# Altium integrated library NSC Interface.IntLib: 481 symbols (part 11 of 16)
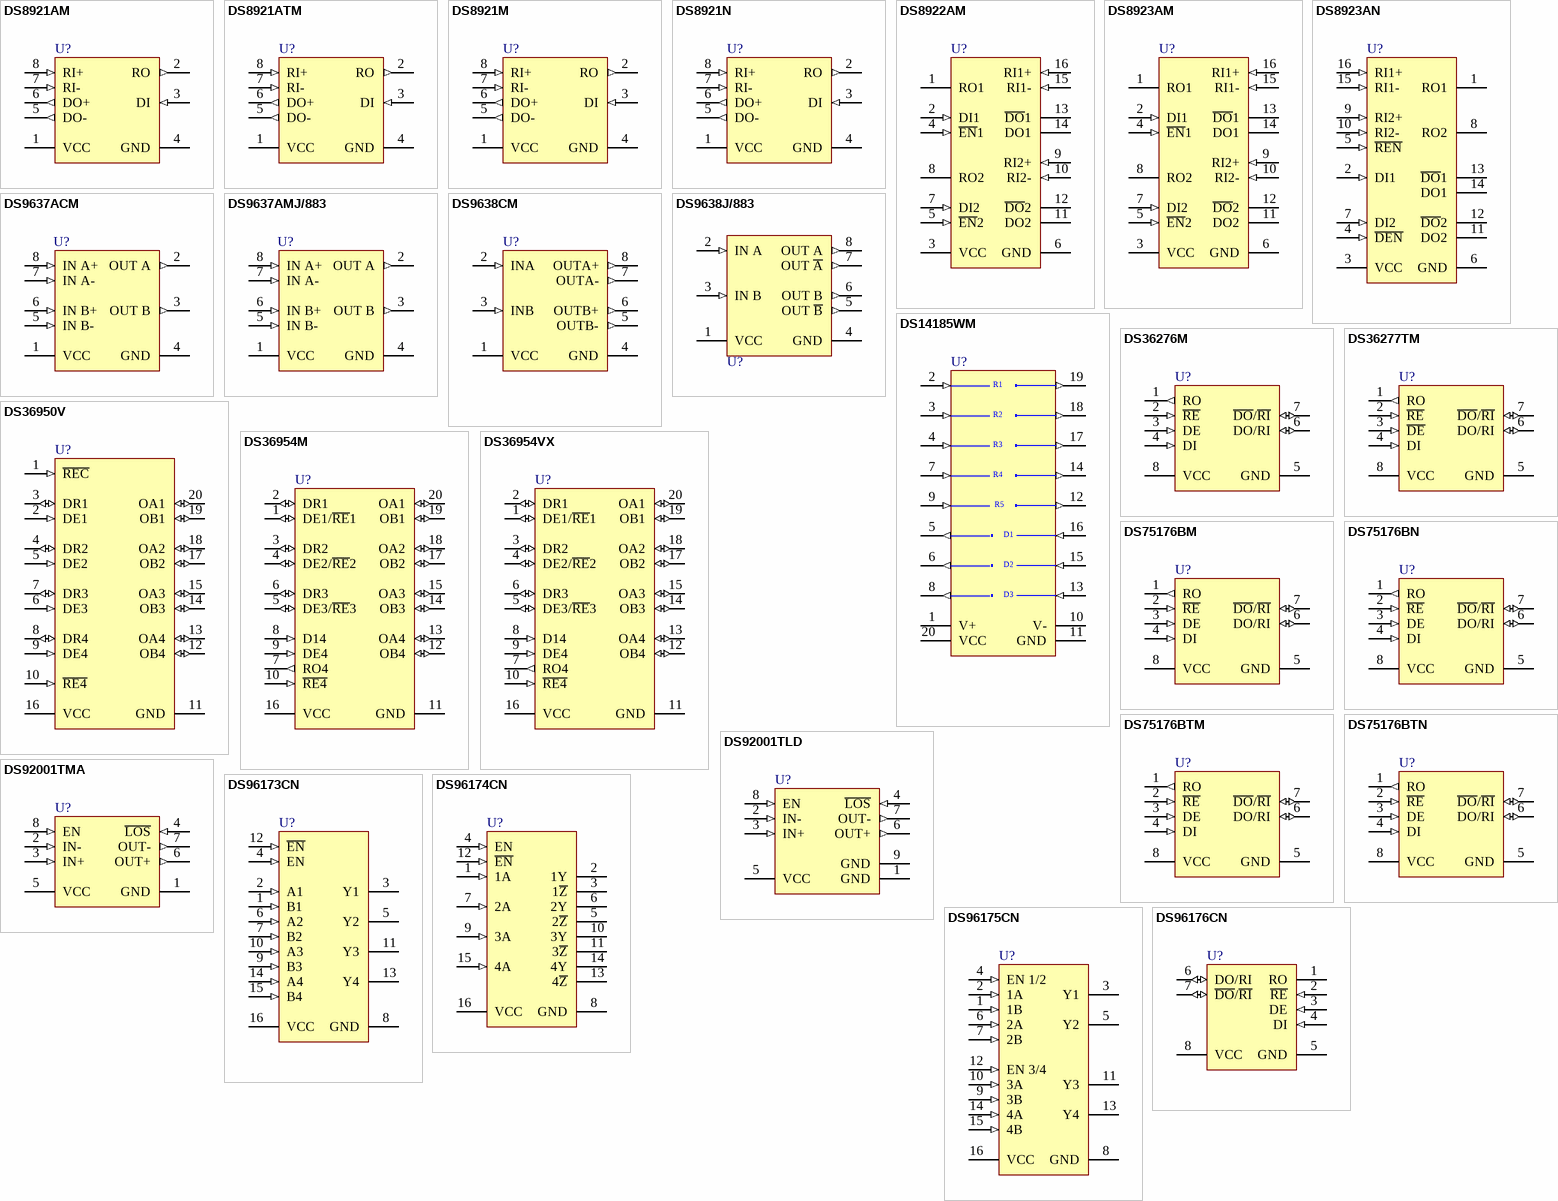
[diagram p50: symbols DS8921AM to DS96176CN]

## DS96173CN
designator U?
RS-485/RS-422 Quad Differential Line Receivers; PartNumber: DS96173CN; Manufacturer: National Semiconductor; CompType: Interface IC; PackageTopMarking: NSUZXYYTT*DS96173CN; Published: 4-Dec-2008; DatasheetVersion: Jun-1998; PackageVersion: revG, May-2006; PackageReference: N16E; Publisher: Altium Limited; PackageDescription: MDIP, .750 x .250 x.130in, 16 Lead, .100in Pitch; RoHS: Y; PinCount: 16; DigiKeyPartNumber: DS96173CN-ND; Code_JEDEC: MS-001-BB; ComponentLink1Description: DS96173 Datasheet; ComponentLink1URL: http://www.national.com/ds/DS/DS96173.pdf; ComponentLink2Description: DS96173 Web Page; ComponentLink2URL: http://www.national.com/pf/DS/DS96173.html; ComponentLink3Description: N16E Package Page; ComponentLink3URL: http://www.national.com/packaging/folders/n16e.html
footprint N16E (DIP, 16-Leads, Row Spacing 7.62mm, Pitch 2.54mm, Body 19.3x6.35mm)
pins: 1 B1 (in), 2 A1 (in), 3 Y1 (hiz), 4 EN (in), 5 Y2 (hiz), 6 A2 (in), 7 B2 (in), 8 GND (power), 9 B3 (in), 10 A3 (in), 11 Y3 (hiz), 12 ~{EN} (in), 13 Y4 (hiz), 14 A4 (in), 15 B4 (in), 16 VCC (power)

## DS96174CN
designator U?
RS-485/RS-422 Quad Differential Line Driver; PartNumber: DS96174CN; Manufacturer: National Semiconductor; CompType: Interface IC; PackageTopMarking: NSUZXYYTT*DS96174CN; Published: 4-Dec-2008; DatasheetVersion: Jun-1998; PackageVersion: revG, May-2006; PackageReference: N16E; Publisher: Altium Limited; PackageDescription: MDIP, .750 x .250 x.130in, 16 Lead, .100in Pitch; RoHS: O; PinCount: 16; DigiKeyPartNumber: DS96174CN-ND; Code_JEDEC: MS-001-BB; ComponentLink1Description: DS96174 Datasheet; ComponentLink1URL: http://www.national.com/ds/DS/DS96174.pdf; ComponentLink2Description: DS96174 Web Page; ComponentLink2URL: http://www.national.com/pf/DS/DS96174.html; ComponentLink3Description: N16E Package Page; ComponentLink3URL: http://www.national.com/packaging/folders/n16e.html
footprint N16E (DIP, 16-Leads, Row Spacing 7.62mm, Pitch 2.54mm, Body 19.3x6.35mm)
pins: 1 1A (in), 2 1Y (hiz), 3 1~{Z} (hiz), 4 EN (in), 5 2~{Z} (hiz), 6 2Y (hiz), 7 2A (in), 8 GND (power), 9 3A (in), 10 3Y (hiz), 11 3~{Z} (hiz), 12 ~{EN} (in), 13 4~{Z} (hiz), 14 4Y (hiz), 15 4A (in), 16 VCC (power)

## DS96175CN
designator U?
RS-485/RS-422 Quad Differential Line Receiver; PartNumber: DS96175CN; Manufacturer: National Semiconductor; CompType: Interface IC; PackageTopMarking: NSUZXYYTT*DS96175CN; Published: 4-Dec-2008; DatasheetVersion: Jun-1998; PackageVersion: revG, May-2006; PackageReference: N16E; Publisher: Altium Limited; PackageDescription: MDIP, .750 x .250 x.130in, 16 Lead, .100in Pitch; RoHS: O; PinCount: 16; DigiKeyPartNumber: DS96175CN-ND; Code_JEDEC: MS-001-BB; ComponentLink1Description: DS96175 Datasheet; ComponentLink1URL: http://www.national.com/ds/DS/DS96175.pdf; ComponentLink2Description: DS96175 Web Page; ComponentLink2URL: http://www.national.com/pf/DS/DS96175.html; ComponentLink3Description: N16E Package Page; ComponentLink3URL: http://www.national.com/packaging/folders/n16e.html
footprint N16E (DIP, 16-Leads, Row Spacing 7.62mm, Pitch 2.54mm, Body 19.3x6.35mm)
pins: 1 1B (in), 2 1A (in), 3 Y1 (hiz), 4 EN 1/2 (in), 5 Y2 (hiz), 6 2A (in), 7 2B (in), 8 GND (power), 9 3B (in), 10 3A (in), 11 Y3 (hiz), 12 EN 3/4 (in), 13 Y4 (hiz), 14 4A (in), 15 4B (in), 16 VCC (power)

## DS96176CN
designator U?
RS-485/RS-422 Differential Bus Transceiver; PartNumber: DS96176CN; Manufacturer: National Semiconductor; CompType: Interface IC; PackageTopMarking: NSUZXYTT*DS96176CN; Published: 4-Dec-2008; DatasheetVersion: May-1998; PackageVersion: revG, May-2006; PackageReference: N08E; Publisher: Altium Limited; PackageDescription: MDIP, .365 x .250 x .130in, 8 Lead, .100in Pitch; RoHS: O; PinCount: 8; DigiKeyPartNumber: DS96176CN-ND; Code_JEDEC: MS-001-BA; ComponentLink1Description: DS96176 Datasheet; ComponentLink1URL: http://www.national.com/ds/DS/DS96176.pdf; ComponentLink2Description: DS96176 Web Page; ComponentLink2URL: http://www.national.com/pf/DS/DS96176.html; ComponentLink3Description: N08E Package Page; ComponentLink3URL: http://www.national.com/packaging/folders/n08e.html
footprint N08E (DIP, 8-Leads, Row Spacing 7.62mm, Pitch 2.54mm, Body 9.91x6.35mm)
pins: 1 RO (hiz), 2 ~{RE} (in), 3 DE (in), 4 DI (in), 5 GND (power), 6 DO/RI (io), 7 ~{DO}/~{RI} (io), 8 VCC (power)

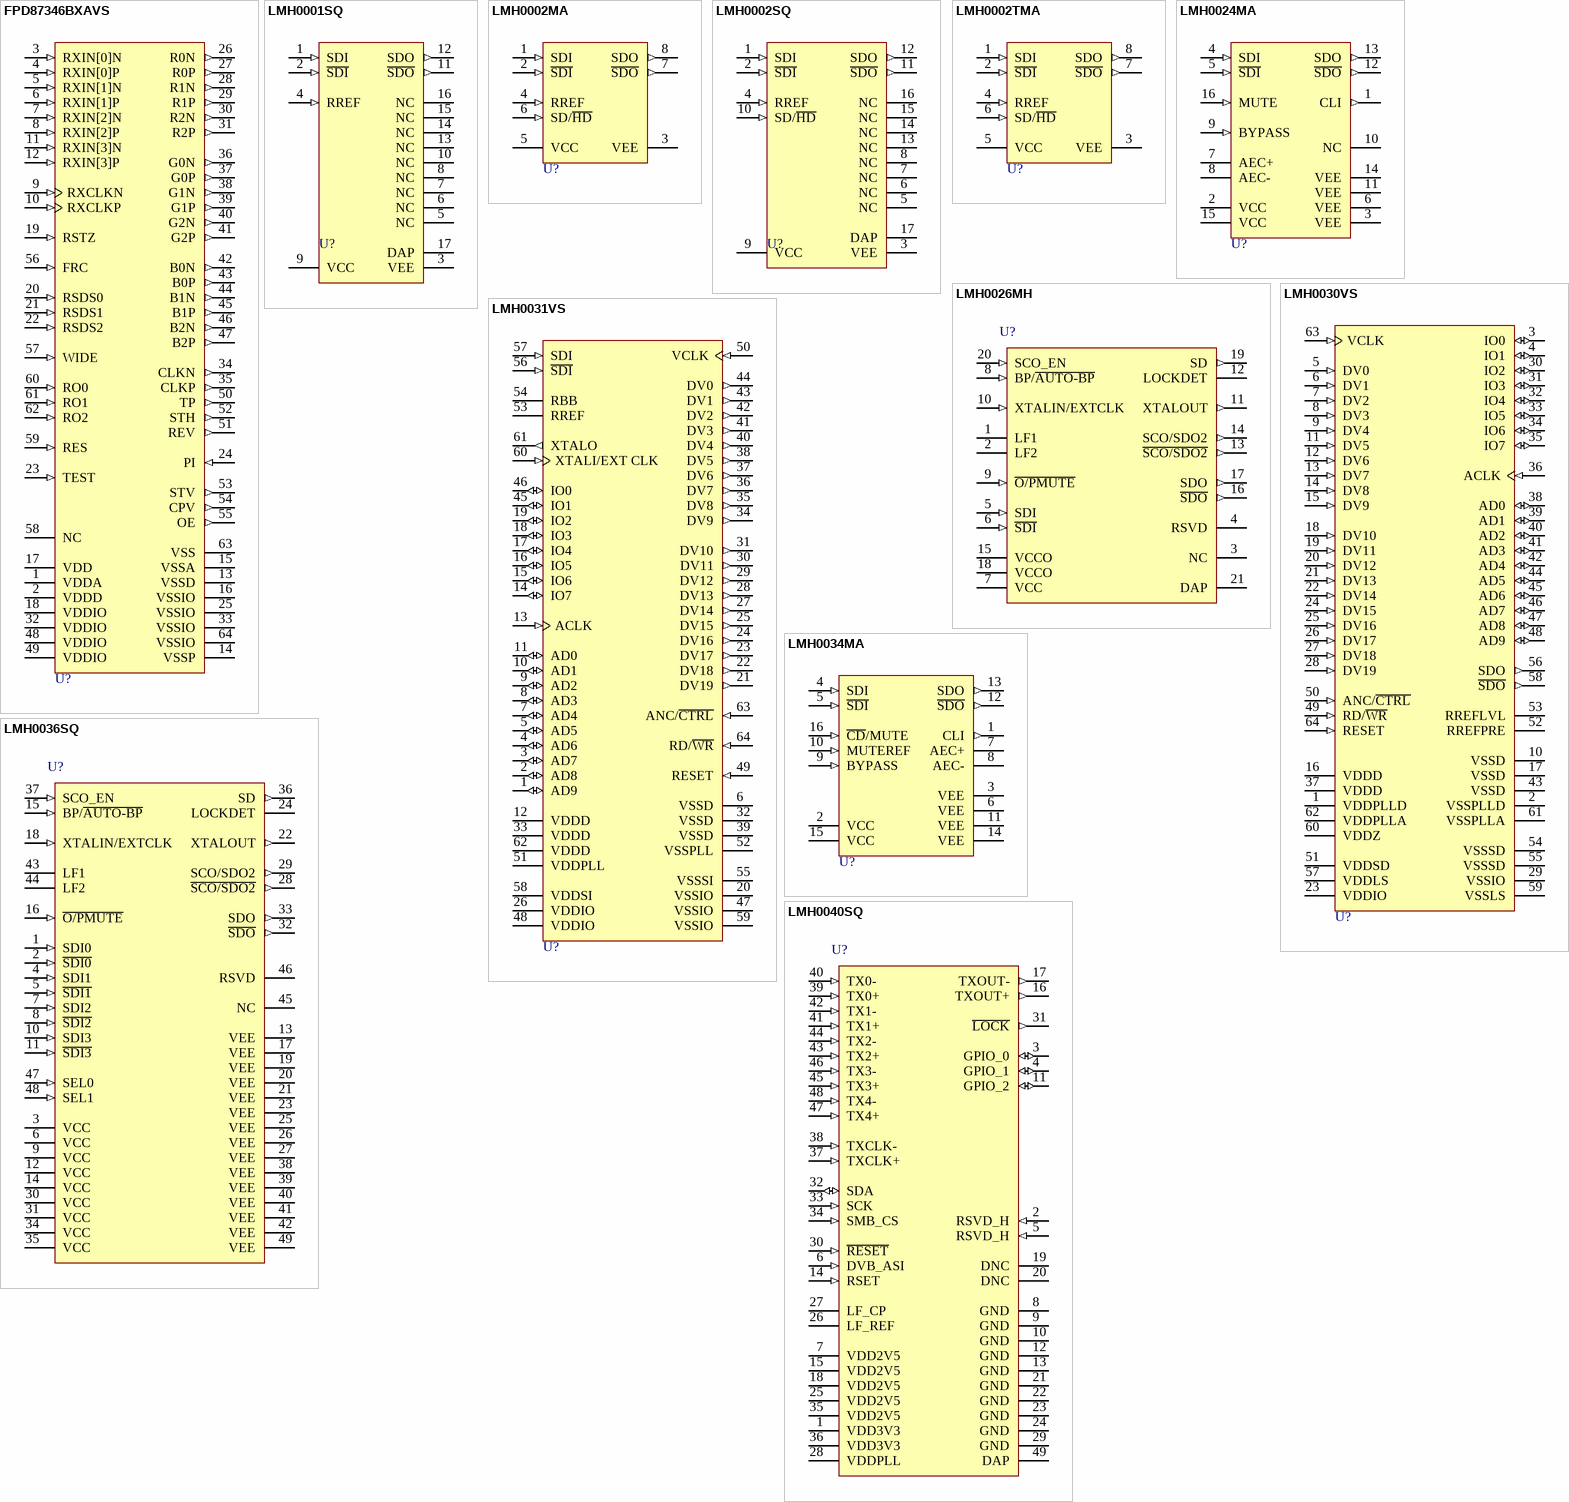
[diagram p28: symbols FPD87346BXAVS to LMH0040SQ]

## FPD87346BXAVS
designator U?
Low EMI, Low Dynamic Power (SVGA) XGA/WXGA TFT-LCD Timing Controller with Reduced Swing Differential Signaling (RSDS) Outputs; PartNumber: FPD87346BXAVS; Manufacturer: National Semiconductor; CompType: Interface IC; PackageTopMarking: NSUZXYYTT*FPD87346BXAVS*BBBBB; Published: 4-Dec-2008; DatasheetVersion: Oct-2003; PackageVersion: revB, Jul-2003; PackageReference: VEC64A; Publisher: Altium Limited; PackageDescription: TQFP, Jedec Metric, 10 x 10 x 1.0mm, 64 Lead, 0.5mm Pitch; RoHS: Y; PinCount: 64; Code_JEDEC: MS-026-ACD; ComponentLink1Description: FPD87346BXA Datasheet; ComponentLink1URL: http://www.national.com/ds/FP/FPD87346.pdf; ComponentLink2Description: FPD87346BXA Web Page; ComponentLink2URL: http://www.national.com/pf/FP/FPD87346BXA.html; ComponentLink3Description: VEC64A Package Page; ComponentLink3URL: http://www.national.com/packaging/folders/vec64a.html
footprint VEC64A_N (Thin QFP, 64-Leads, Body 10x10mm, Pitch 0.5mm, IPC Medium Density)
footprint VEC64A_L (Thin QFP, 64-Leads, Body 10x10mm, Pitch 0.5mm, IPC High Density)
footprint VEC64A_M (Thin QFP, 64-Leads, Body 10x10mm, Pitch 0.5mm, IPC Low Density)
pins: 1 VDDA (power), 2 VDDD (power), 3 RXIN[0]N (in), 4 RXIN[0]P (in), 5 RXIN[1]N (in), 6 RXIN[1]P (in), 7 RXIN[2]N (in), 8 RXIN[2]P (in), 9 RXCLKN (in), 10 RXCLKP (in), 11 RXIN[3]N (in), 12 RXIN[3]P (in), 13 VSSD (power), 14 VSSP (power), 15 VSSA (power), 16 VSSIO (power), 17 VDD (power), 18 VDDIO (power), 19 RSTZ (in), 20 RSDS0 (in), 21 RSDS1 (in), 22 RSDS2 (in), 23 TEST (in), 24 PI (in), 25 VSSIO (power), 26 R0N (out), 27 R0P (out), 28 R1N (out), 29 R1P (out), 30 R2N (out), 31 R2P (out), 32 VDDIO (power), 33 VSSIO (power), 34 CLKN (out), 35 CLKP (out), 36 G0N (out), 37 G0P (out), 38 G1N (out), 39 G1P (out), 40 G2N (out), 41 G2P (out), 42 B0N (out), 43 B0P (out), 44 B1N (out), 45 B1P (out), 46 B2N (out), 47 B2P (out), 48 VDDIO (power), 49 VDDIO (power), 50 TP (out), 51 REV (out), 52 STH (out), 53 STV (out), 54 CPV (out), 55 OE (out), 56 FRC (in), 57 WIDE (in), 58 NC, 59 RES (in), 60 RO0 (in), 61 RO1 (in), 62 RO2 (in), 63 VSS (power), 64 VSSIO (power)

## LMH0001SQ
designator U?
SMPTE 259M / 344M Serial Digital Cable Driver; PartNumber: LMH0001SQ; Manufacturer: National Semiconductor; CompType: Interface IC; PackageTopMarking: NS*UZXYTT*L001; Published: 4-Dec-2008; DatasheetVersion: Jan-2008; PackageVersion: revA, Dec-2005; PackageReference: SQB16A; Publisher: Altium Limited; PackageDescription: LLP, Plastic, Quad, 4 x 4 x 0.8mm, 16 Lead, 0.65mm Pitch, No Pullback; RoHS: Y; PinCount: 16; ComponentLink1Description: LMH0001 Datasheet; ComponentLink1URL: http://www.national.com/ds/LM/LMH0001.pdf; ComponentLink2Description: LMH0001 Web Page; ComponentLink2URL: http://www.national.com/pf/LM/LMH0001.html; ComponentLink3Description: SQB16A Package Page; ComponentLink3URL: http://www.national.com/packaging/folders/sqb16a.html
footprint SQB16A (QFN, 16-Leads, Body 4x4mm, Pitch 0.65mm, NSC Recommended)
pins: 1 SDI (in), 2 ~{SDI} (in), 3 VEE (power), 4 RREF (in), 5 NC, 6 NC, 7 NC, 8 NC, 9 VCC (power), 10 NC, 11 ~{SDO} (out), 12 SDO (out), 13 NC, 14 NC, 15 NC, 16 NC, 17 DAP (power)

## LMH0002MA
designator U?
SMPTE 292M / 259M Serial Digital Cable Driver; PartNumber: LMH0002MA; Manufacturer: National Semiconductor; CompType: Interface IC; PackageTopMarking: NSZXTT*L002; Published: 4-Dec-2008; DatasheetVersion: Oct-2006; PackageVersion: revL, Sep-2006; PackageReference: M08A; Publisher: Altium Limited; PackageDescription: SOIC Narrow, 4.9 x 3.9 x 1.45mm, 8 Lead, 1.27mm Pitch; RoHS: O; PinCount: 8; DigiKeyPartNumber: LMH0002MA-ND; Code_JEDEC: MS-012-AA; Code_IPC: SOIC127P600-8; ComponentLink1Description: LMH0002 Datasheet; ComponentLink1URL: http://www.national.com/ds/LM/LMH0002.pdf; ComponentLink2Description: LMH0002 Web Page; ComponentLink2URL: http://www.national.com/pf/LM/LMH0002.html; ComponentLink3Description: M08A Package Page; ComponentLink3URL: http://www.national.com/packaging/folders/m08a.html
footprint M08A_N (SOIC, 8-Leads, Body 4.9x3.9mm, Pitch 1.27mm, IPC Medium Density)
footprint M08A_L (SOIC, 8-Leads, Body 4.9x3.9mm, Pitch 1.27mm, IPC High Density)
footprint M08A_M (SOIC, 8-Leads, Body 4.9x3.9mm, Pitch 1.27mm, IPC Low Density)
pins: 1 SDI (in), 2 ~{SDI} (in), 3 VEE (power), 4 RREF (in), 5 VCC (power), 6 SD/~{HD} (in), 7 ~{SDO} (out), 8 SDO (out)

## LMH0002SQ
designator U?
SMPTE 292M / 259M Serial Digital Cable Driver; PartNumber: LMH0002SQ; Manufacturer: National Semiconductor; CompType: Interface IC; PackageTopMarking: NS*UZXYTT*L002; Published: 4-Dec-2008; DatasheetVersion: Oct-2006; PackageVersion: revA, Dec-2005; PackageReference: SQB16A; Publisher: Altium Limited; PackageDescription: LLP, Plastic, Quad, 4 x 4 x 0.8mm, 16 Lead, 0.65mm Pitch, No Pullback; RoHS: O; PinCount: 16; DigiKeyPartNumber: LMH0002SQTR-ND; ComponentLink1Description: LMH0002 Datasheet; ComponentLink1URL: http://www.national.com/ds/LM/LMH0002.pdf; ComponentLink2Description: LMH0002 Web Page; ComponentLink2URL: http://www.national.com/pf/LM/LMH0002.html; ComponentLink3Description: SQB16A Package Page; ComponentLink3URL: http://www.national.com/packaging/folders/sqb16a.html
footprint SQB16A (QFN, 16-Leads, Body 4x4mm, Pitch 0.65mm, NSC Recommended)
pins: 1 SDI (in), 2 ~{SDI} (in), 3 VEE (power), 4 RREF (in), 5 NC, 6 NC, 7 NC, 8 NC, 9 VCC (power), 10 SD/~{HD} (in), 11 ~{SDO} (out), 12 SDO (out), 13 NC, 14 NC, 15 NC, 16 NC, 17 DAP (power)

## LMH0002TMA
designator U?
SMPTE 292M / 259M Serial Digital Cable Driver; PartNumber: LMH0002TMA; Manufacturer: National Semiconductor; CompType: Interface IC; PackageTopMarking: NSZXTT*L002T; Published: 4-Dec-2008; DatasheetVersion: Oct-2006; PackageVersion: revL, Sep-2006; PackageReference: M08A; Publisher: Altium Limited; PackageDescription: SOIC Narrow, 4.9 x 3.9 x 1.45mm, 8 Lead, 1.27mm Pitch; RoHS: O; PinCount: 8; DigiKeyPartNumber: LMH0002TMA-ND; Code_JEDEC: MS-012-AA; Code_IPC: SOIC127P600-8; ComponentLink1Description: LMH0002 Datasheet; ComponentLink1URL: http://www.national.com/ds/LM/LMH0002.pdf; ComponentLink2Description: LMH0002 Web Page; ComponentLink2URL: http://www.national.com/pf/LM/LMH0002.html; ComponentLink3Description: M08A Package Page; ComponentLink3URL: http://www.national.com/packaging/folders/m08a.html
footprint M08A_N (SOIC, 8-Leads, Body 4.9x3.9mm, Pitch 1.27mm, IPC Medium Density)
footprint M08A_L (SOIC, 8-Leads, Body 4.9x3.9mm, Pitch 1.27mm, IPC High Density)
footprint M08A_M (SOIC, 8-Leads, Body 4.9x3.9mm, Pitch 1.27mm, IPC Low Density)
pins: 1 SDI (in), 2 ~{SDI} (in), 3 VEE (power), 4 RREF (in), 5 VCC (power), 6 SD/~{HD} (in), 7 ~{SDO} (out), 8 SDO (out)

## LMH0024MA
designator U?
LMH0024 SMPTE 259M / 259M Adaptive Cable Equalizer; PartNumber: LMH0024MA; Manufacturer: National Semiconductor; CompType: Interface IC; PackageTopMarking: NSUZXYTT*L024; Published: 4-Dec-2008; DatasheetVersion: Jan-2008; PackageVersion: revJ, Aug-1995; PackageReference: M16A; Publisher: Altium Limited; PackageDescription: Molded Package, S.O., .150in Wide, 16 Lead; RoHS: Y; PinCount: 16; DigiKeyPartNumber: LMH0024MA-ND; Code_JEDEC: MS-012-AC; Code_IPC: SOIC127P600-16; ComponentLink1Description: LMH0024 Datasheet; ComponentLink1URL: http://www.national.com/ds/LM/LMH0024.pdf; ComponentLink2Description: LMH0024 Web Page; ComponentLink2URL: http://www.national.com/pf/LM/LMH0024.html; ComponentLink3Description: M16A Package Page; ComponentLink3URL: http://www.national.com/packaging/folders/m16a.html
footprint M16A_N (SOIC, 16-Leads, Body 9.9x3.9mm, Pitch 1.27mm, IPC Medium Density)
footprint M16A_L (SOIC, 16-Leads, Body 9.9x3.9mm, Pitch 1.27mm, IPC High Density)
footprint M16A_M (SOIC, 16-Leads, Body 9.9x3.9mm, Pitch 1.27mm, IPC Low Density)
pins: 1 CLI (out), 2 VCC (power), 3 VEE (power), 4 SDI (in), 5 ~{SDI} (in), 6 VEE (power), 7 AEC+, 8 AEC-, 9 BYPASS (in), 10 NC, 11 VEE (power), 12 ~{SDO} (out), 13 SDO (out), 14 VEE (power), 15 VCC (power), 16 MUTE (in)

## LMH0026MH
designator U?
SD SDI Reclocker with Dual Differential Outputs; PartNumber: LMH0026MH; Manufacturer: National Semiconductor; CompType: Interface IC; PackageTopMarking: NSUZXYTT*L026; Published: 4-Dec-2008; DatasheetVersion: Mar-2008; PackageVersion: revC, Jul-2006; PackageReference: MXA20A; Publisher: Altium Limited; RoHS: Y; PinCount: 20; Code_JEDEC: MO-153-ACT; ComponentLink1Description: LMH0026 Datasheet; ComponentLink1URL: http://www.national.com/ds/LM/LMH0026.pdf; ComponentLink2Description: LMH0026 Web Page; ComponentLink2URL: http://www.national.com/pf/LM/LMH0026.html; ComponentLink3Description: MXA20A Package Page; ComponentLink3URL: http://www.national.com/packaging/folders/mxa20a.html
footprint MXA20A_N (TSOP, 20-Leads, Body 6.5x4.4mm, Pitch 0.65mm, Exposed Pad, IPC Medium Density)
footprint MXA20A_L (TSOP, 20-Leads, Body 6.5x4.4mm, Pitch 0.65mm, Exposed Pad, IPC High Density)
footprint MXA20A_M (TSOP, 20-Leads, Body 6.5x4.4mm, Pitch 0.65mm, Exposed Pad, IPC Low Density)
pins: 1 LF1, 2 LF2, 3 NC, 4 RSVD, 5 SDI (in), 6 ~{SDI} (in), 7 VCC (power), 8 BP/~{AUTO-BP} (in), 9 ~{O/PMUTE} (in), 10 XTALIN/EXTCLK (in), 11 XTALOUT (out), 12 LOCKDET, 13 ~{SCO/SDO2} (out), 14 SCO/SDO2 (out), 15 VCCO (power), 16 ~{SDO} (out), 17 SDO (out), 18 VCCO (power), 19 SD (out), 20 SCO_EN (in), 21 DAP (power)

## LMH0030VS
designator U?
SMPTE 292M / 259M Digital Video Serializer with Ancilliary Data FIFO and Integrated Cable Driver; PartNumber: LMH0030VS; Manufacturer: National Semiconductor; CompType: Interface IC; PackageTopMarking: NSUZXYYTT*L030; Published: 4-Dec-2008; DatasheetVersion: Aug-2006; PackageVersion: revB, Jul-2003; PackageReference: VEC64A; Publisher: Altium Limited; PackageDescription: TQFP, Jedec Metric, 10 x 10 x 1.0mm, 64 Lead, 0.5mm Pitch; RoHS: O; PinCount: 64; DigiKeyPartNumber: LMH0030VS-ND; Code_JEDEC: MS-026-ACD; ComponentLink1Description: LMH0030 Datasheet; ComponentLink1URL: http://www.national.com/ds/LM/LMH0030.pdf; ComponentLink2Description: LMH0030 Web Page; ComponentLink2URL: http://www.national.com/pf/LM/LMH0030.html; ComponentLink3Description: VEC64A Package Page; ComponentLink3URL: http://www.national.com/packaging/folders/vec64a.html
footprint VEC64A_N (Thin QFP, 64-Leads, Body 10x10mm, Pitch 0.5mm, IPC Medium Density)
footprint VEC64A_L (Thin QFP, 64-Leads, Body 10x10mm, Pitch 0.5mm, IPC High Density)
footprint VEC64A_M (Thin QFP, 64-Leads, Body 10x10mm, Pitch 0.5mm, IPC Low Density)
pins: 1 VDDPLLD (power), 2 VSSPLLD (power), 3 IO0 (io), 4 IO1 (io), 5 DV0 (in), 6 DV1 (in), 7 DV2 (in), 8 DV3 (in), 9 DV4 (in), 10 VSSD (power), 11 DV5 (in), 12 DV6 (in), 13 DV7 (in), 14 DV8 (in), 15 DV9 (in), 16 VDDD (power), 17 VSSD (power), 18 DV10 (in), 19 DV11 (in), 20 DV12 (in), 21 DV13 (in), 22 DV14 (in), 23 VDDIO (power), 24 DV15 (in), 25 DV16 (in), 26 DV17 (in), 27 DV18 (in), 28 DV19 (in), 29 VSSIO (power), 30 IO2 (io), 31 IO3 (io), 32 IO4 (io), 33 IO5 (io), 34 IO6 (io), 35 IO7 (io), 36 ACLK (in), 37 VDDD (power), 38 AD0 (io), 39 AD1 (io), 40 AD2 (io), 41 AD3 (io), 42 AD4 (io), 43 VSSD (power), 44 AD5 (io), 45 AD6 (io), 46 AD7 (io), 47 AD8 (io), 48 AD9 (io), 49 RD/~{WR} (in), 50 ANC/~{CTRL} (in), 51 VDDSD (power), 52 RREFPRE, 53 RREFLVL, 54 VSSSD (power), 55 VSSSD (power), 56 SDO (out), 57 VDDLS (power), 58 ~{SDO} (out), 59 VSSLS (power), 60 VDDZ (power), 61 VSSPLLA (power), 62 VDDPLLA (power), 63 VCLK (in), 64 RESET (in)

## LMH0031VS
designator U?
SMPTE 292M/259M Digital Video Deserializer / Descrambler with Video and Ancillary Data FIFOs; PartNumber: LMH0031VS; Manufacturer: National Semiconductor; CompType: Interface IC; PackageTopMarking: NSUZXYYTT*L031; Published: 4-Dec-2008; DatasheetVersion: Jan-2006; PackageVersion: revB, Jul-2003; PackageReference: VEC64A; Publisher: Altium Limited; PackageDescription: TQFP, Jedec Metric, 10 x 10 x 1.0mm, 64 Lead, 0.5mm Pitch; RoHS: O; PinCount: 64; DigiKeyPartNumber: LMH0031VS-ND; Code_JEDEC: MS-026-ACD; ComponentLink1Description: LMH0031 Datasheet; ComponentLink1URL: http://www.national.com/ds/LM/LMH0031.pdf; ComponentLink2Description: LMH0031 Web Page; ComponentLink2URL: http://www.national.com/pf/LM/LMH0031.html; ComponentLink3Description: VEC64A Package Page; ComponentLink3URL: http://www.national.com/packaging/folders/vec64a.html
footprint VEC64A_N (Thin QFP, 64-Leads, Body 10x10mm, Pitch 0.5mm, IPC Medium Density)
footprint VEC64A_L (Thin QFP, 64-Leads, Body 10x10mm, Pitch 0.5mm, IPC High Density)
footprint VEC64A_M (Thin QFP, 64-Leads, Body 10x10mm, Pitch 0.5mm, IPC Low Density)
pins: 1 AD9 (io), 2 AD8 (io), 3 AD7 (io), 4 AD6 (io), 5 AD5 (io), 6 VSSD (power), 7 AD4 (io), 8 AD3 (io), 9 AD2 (io), 10 AD1 (io), 11 AD0 (io), 12 VDDD (power), 13 ACLK (in), 14 IO7 (io), 15 IO6 (io), 16 IO5 (io), 17 IO4 (io), 18 IO3 (io), 19 IO2 (io), 20 VSSIO (power), 21 DV19 (out), 22 DV18 (out), 23 DV17 (out), 24 DV16 (out), 25 DV15 (out), 26 VDDIO (power), 27 DV14 (out), 28 DV13 (out), 29 DV12 (out), 30 DV11 (out), 31 DV10 (out), 32 VSSD (power), 33 VDDD (power), 34 DV9 (out), 35 DV8 (out), 36 DV7 (out), 37 DV6 (out), 38 DV5 (out), 39 VSSD (power), 40 DV4 (out), 41 DV3 (out), 42 DV2 (out), 43 DV1 (out), 44 DV0 (out), 45 IO1 (io), 46 IO0 (io), 47 VSSIO (power), 48 VDDIO (power), 49 RESET (in), 50 VCLK (in), 51 VDDPLL (power), 52 VSSPLL (power), 53 RREF, 54 RBB, 55 VSSSI (power), 56 ~{SDI} (in), 57 SDI (in), 58 VDDSI (power), 59 VSSIO (power), 60 XTALI/EXT CLK (in), 61 XTALO (out), 62 VDDD (power), 63 ANC/~{CTRL} (in), 64 RD/~{WR} (in)

## LMH0034MA
designator U?
LMH0034 SMPTE 292M / 259M Adaptive Cable Equalizer; PartNumber: LMH0034MA; Manufacturer: National Semiconductor; CompType: Interface IC; PackageTopMarking: NSUZXYTT*L034; Published: 4-Dec-2008; DatasheetVersion: Jun-2007; PackageVersion: revJ, Aug-1995; PackageReference: M16A; Publisher: Altium Limited; PackageDescription: Molded Package, S.O., .150in Wide, 16 Lead; RoHS: O; PinCount: 16; DigiKeyPartNumber: LMH0034MA-ND; Code_JEDEC: MS-012-AC; Code_IPC: SOIC127P600-16; ComponentLink1Description: LMH0034 Datasheet; ComponentLink1URL: http://www.national.com/ds/LM/LMH0034.pdf; ComponentLink2Description: LMH0034 Web Page; ComponentLink2URL: http://www.national.com/pf/LM/LMH0034.html; ComponentLink3Description: M16A Package Page; ComponentLink3URL: http://www.national.com/packaging/folders/m16a.html
footprint M16A_N (SOIC, 16-Leads, Body 9.9x3.9mm, Pitch 1.27mm, IPC Medium Density)
footprint M16A_L (SOIC, 16-Leads, Body 9.9x3.9mm, Pitch 1.27mm, IPC High Density)
footprint M16A_M (SOIC, 16-Leads, Body 9.9x3.9mm, Pitch 1.27mm, IPC Low Density)
pins: 1 CLI (out), 2 VCC (power), 3 VEE (power), 4 SDI (in), 5 ~{SDI} (in), 6 VEE (power), 7 AEC+, 8 AEC-, 9 BYPASS (in), 10 MUTEREF (in), 11 VEE (power), 12 ~{SDO} (out), 13 SDO (out), 14 VEE (power), 15 VCC (power), 16 ~{CD}/MUTE (in)

## LMH0036SQ
designator U?
SD SDI Reclocker with 4:1 Input Multiplexer; PartNumber: LMH0036SQ; Manufacturer: National Semiconductor; CompType: Interface IC; PackageTopMarking: NS*UZXYTT*XL036; Published: 4-Dec-2008; DatasheetVersion: Aug-2008; PackageVersion: revA, May-2003; PackageReference: SQA48A; Publisher: Altium Limited; RoHS: Y; PinCount: 48; Code_JEDEC: MO-220-WKKD-2; ComponentLink1Description: LMH0036 Datasheet; ComponentLink1URL: http://www.national.com/ds/LM/LMH0036.pdf; ComponentLink2Description: LMH0036 Web Page; ComponentLink2URL: http://www.national.com/pf/LM/LMH0036.html; ComponentLink3Description: SQA48A Package Page; ComponentLink3URL: http://www.national.com/packaging/folders/sqa48a.html
footprint SQA48A (QFN, 48-Leads, Body 7x7mm, Pitch 0.5mm, NSC Recommended)
pins: 1 SDI0 (in), 2 ~{SDI0} (in), 3 VCC (power), 4 SDI1 (in), 5 ~{SDI1} (in), 6 VCC (power), 7 SDI2 (in), 8 ~{SDI2} (in), 9 VCC (power), 10 SDI3 (in), 11 ~{SDI3} (in), 12 VCC (power), 13 VEE (power), 14 VCC (power), 15 BP/~{AUTO-BP} (in), 16 ~{O/PMUTE} (in), 17 VEE (power), 18 XTALIN/EXTCLK (in), 19 VEE (power), 20 VEE (power), 21 VEE (power), 22 XTALOUT (out), 23 VEE (power), 24 LOCKDET, 25 VEE (power), 26 VEE (power), 27 VEE (power), 28 ~{SCO/SDO2} (out), 29 SCO/SDO2 (out), 30 VCC (power), 31 VCC (power), 32 ~{SDO} (out), 33 SDO (out), 34 VCC (power), 35 VCC (power), 36 SD (out), 37 SCO_EN (in), 38 VEE (power), 39 VEE (power), 40 VEE (power), 41 VEE (power), 42 VEE (power), 43 LF1, 44 LF2, 45 NC, 46 RSVD, 47 SEL0 (in), 48 SEL1 (in), 49 VEE (power)

## LMH0040SQ
designator U?
HD, SD, DVB-ASI SDI Serializer and Driver with LVDS Interface; PartNumber: LMH0040SQ; Manufacturer: National Semiconductor; CompType: Interface IC; PackageTopMarking: NS*UZXYTT*LMH0040; Published: 4-Dec-2008; DatasheetVersion: Oct-2008; PackageVersion: revA, May-2003; PackageReference: SQA48A; Publisher: Altium Limited; RoHS: Y; PinCount: 48; DigiKeyPartNumber: LMH0040SQ-ND; Code_JEDEC: MO-220-WKKD-2; ComponentLink1Description: LMH0040 Datasheet; ComponentLink1URL: http://www.national.com/ds/LM/LMH0040.pdf; ComponentLink2Description: LMH0040 Web Page; ComponentLink2URL: http://www.national.com/pf/LM/LMH0040.html; ComponentLink3Description: SQA48A Package Page; ComponentLink3URL: http://www.national.com/packaging/folders/sqa48a.html
footprint SQA48A (QFN, 48-Leads, Body 7x7mm, Pitch 0.5mm, NSC Recommended)
pins: 1 VDD3V3 (power), 2 RSVD_H (in), 3 GPIO_0 (io), 4 GPIO_1 (io), 5 RSVD_H (in), 6 DVB_ASI (in), 7 VDD2V5 (power), 8 GND (power), 9 GND (power), 10 GND (power), 11 GPIO_2 (io), 12 GND (power), 13 GND (power), 14 RSET (in), 15 VDD2V5 (power), 16 TXOUT+ (out), 17 TXOUT- (out), 18 VDD2V5 (power), 19 DNC, 20 DNC, 21 GND (power), 22 GND (power), 23 GND (power), 24 GND (power), 25 VDD2V5 (power), 26 LF_REF, 27 LF_CP, 28 VDDPLL (power), 29 GND (power), 30 ~{RESET} (in), 31 ~{LOCK} (out), 32 SDA (io), 33 SCK (in), 34 SMB_CS (in), 35 VDD2V5 (power), 36 VDD3V3 (power), 37 TXCLK+ (in), 38 TXCLK- (in), 39 TX0+ (in), 40 TX0- (in), 41 TX1+ (in), 42 TX1- (in), 43 TX2+ (in), 44 TX2- (in), 45 TX3+ (in), 46 TX3- (in), 47 TX4+ (in), 48 TX4- (in), 49 DAP (power)

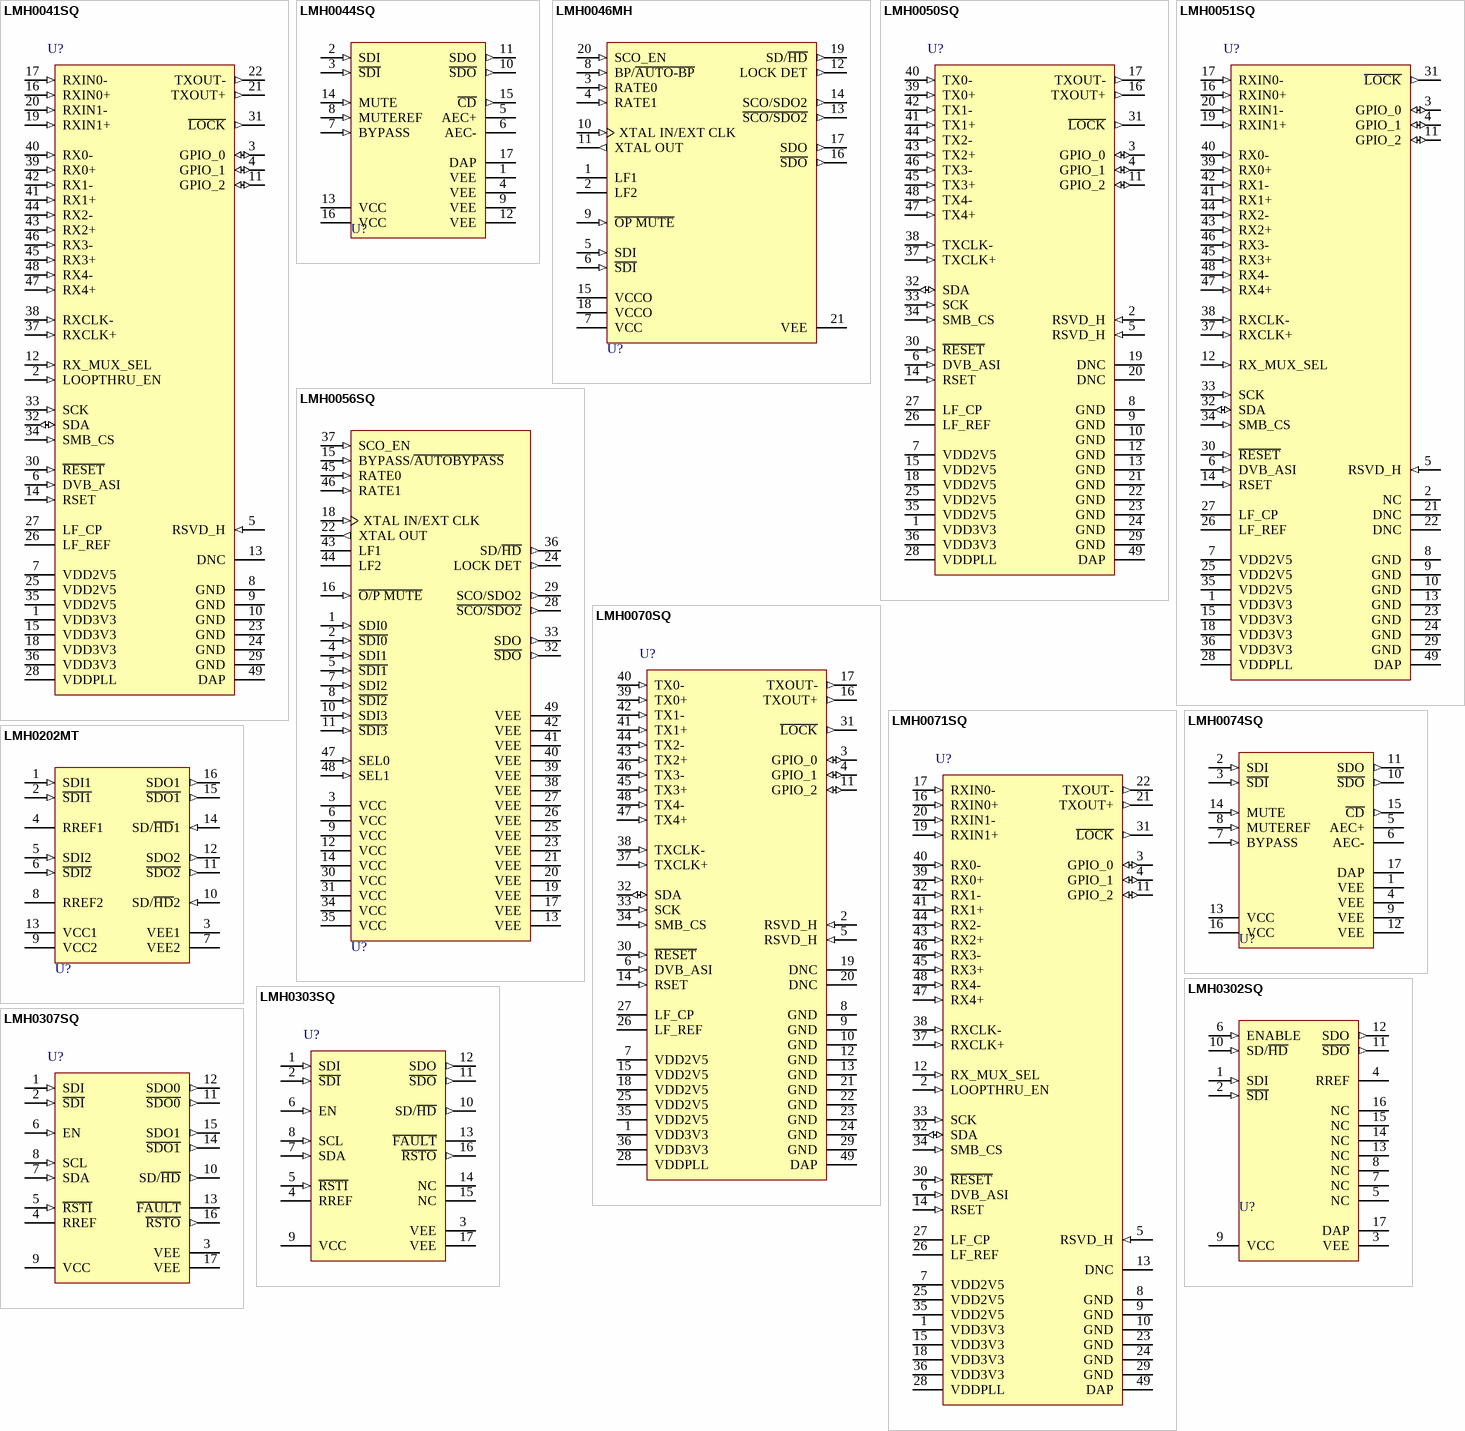
[diagram p29: symbols LMH0041SQ to LMH0307SQ]

## LMH0041SQ
designator U?
HD, SD, DVB-ASI SDI Deserializer with Loopthrough and LVDS Interface; PartNumber: LMH0041SQ; Manufacturer: National Semiconductor; CompType: Interface IC; PackageTopMarking: NS*UZXYTT*LMH0041; Published: 4-Dec-2008; DatasheetVersion: Oct-2008; PackageVersion: revA, May-2003; PackageReference: SQA48A; Publisher: Altium Limited; RoHS: Y; PinCount: 48; Code_JEDEC: MO-220-WKKD-2; ComponentLink1Description: LMH0041 Datasheet; ComponentLink1URL: http://www.national.com/ds/LM/LMH0041.pdf; ComponentLink2Description: LMH0041 Web Page; ComponentLink2URL: http://www.national.com/pf/LM/LMH0041.html; ComponentLink3Description: SQA48A Package Page; ComponentLink3URL: http://www.national.com/packaging/folders/sqa48a.html
footprint SQA48A (QFN, 48-Leads, Body 7x7mm, Pitch 0.5mm, NSC Recommended)
pins: 1 VDD3V3 (power), 2 LOOPTHRU_EN (in), 3 GPIO_0 (io), 4 GPIO_1 (io), 5 RSVD_H (in), 6 DVB_ASI (in), 7 VDD2V5 (power), 8 GND (power), 9 GND (power), 10 GND (power), 11 GPIO_2 (io), 12 RX_MUX_SEL (in), 13 DNC, 14 RSET (in), 15 VDD3V3 (power), 16 RXIN0+ (in), 17 RXIN0- (in), 18 VDD3V3 (power), 19 RXIN1+ (in), 20 RXIN1- (in), 21 TXOUT+ (out), 22 TXOUT- (out), 23 GND (power), 24 GND (power), 25 VDD2V5 (power), 26 LF_REF, 27 LF_CP, 28 VDDPLL (power), 29 GND (power), 30 ~{RESET} (in), 31 ~{LOCK} (out), 32 SDA (io), 33 SCK (in), 34 SMB_CS (in), 35 VDD2V5 (power), 36 VDD3V3 (power), 37 RXCLK+ (in), 38 RXCLK- (in), 39 RX0+ (in), 40 RX0- (in), 41 RX1+ (in), 42 RX1- (in), 43 RX2+ (in), 44 RX2- (in), 45 RX3+ (in), 46 RX3- (in), 47 RX4+ (in), 48 RX4- (in), 49 DAP (power)

## LMH0044SQ
designator U?
SMPTE 292M / 259M Adaptive Cable Equalizer; PartNumber: LMH0044SQ; Manufacturer: National Semiconductor; CompType: Interface IC; PackageTopMarking: NS*UZXYTT*L044; Published: 4-Dec-2008; DatasheetVersion: Jun-2007; PackageVersion: revA, Dec-2005; PackageReference: SQB16A; Publisher: Altium Limited; PackageDescription: LLP, Plastic, Quad, 4 x 4 x 0.8mm, 16 Lead, 0.65mm Pitch, No Pullback; RoHS: O; PinCount: 16; DigiKeyPartNumber: LMH0044SQTR-ND; ComponentLink1Description: LMH0044 Datasheet; ComponentLink1URL: http://www.national.com/ds/LM/LMH0044.pdf; ComponentLink2Description: LMH0044 Web Page; ComponentLink2URL: http://www.national.com/pf/LM/LMH0044.html; ComponentLink3Description: SQB16A Package Page; ComponentLink3URL: http://www.national.com/packaging/folders/sqb16a.html
footprint SQB16A (QFN, 16-Leads, Body 4x4mm, Pitch 0.65mm, NSC Recommended)
pins: 1 VEE (power), 2 SDI (in), 3 ~{SDI} (in), 4 VEE (power), 5 AEC+, 6 AEC-, 7 BYPASS (in), 8 MUTEREF (in), 9 VEE (power), 10 ~{SDO} (out), 11 SDO (out), 12 VEE (power), 13 VCC (power), 14 MUTE (in), 15 ~{CD} (out), 16 VCC (power), 17 DAP (power)

## LMH0046MH
designator U?
HD/SD SDI Reclocker with Dual Differential Outputs; PartNumber: LMH0046MH; Manufacturer: National Semiconductor; CompType: Interface IC; PackageTopMarking: NSUZXYTT*L046; Published: 4-Dec-2008; DatasheetVersion: Apr-2007; PackageVersion: revC, Jul-2006; PackageReference: MXA20A; Publisher: Altium Limited; PackageDescription: Molded TSSOP, Jedec, 6.5 x 4.4 x 0.9mm Body, 20 Lead, 0.65mm Pitch, Exposed Pad; RoHS: Y; PinCount: 20; DigiKeyPartNumber: LMH0046MH-ND; Code_JEDEC: MO-153-ACT; ComponentLink1Description: LMH0046 Datasheet; ComponentLink1URL: http://www.national.com/ds/LM/LMH0046.pdf; ComponentLink2Description: LMH0046 Web Page; ComponentLink2URL: http://www.national.com/pf/LM/LMH0046.html; ComponentLink3Description: MXA20A Package Page; ComponentLink3URL: http://www.national.com/packaging/folders/mxa20a.html
footprint MXA20A_N (TSOP, 20-Leads, Body 6.5x4.4mm, Pitch 0.65mm, Exposed Pad, IPC Medium Density)
footprint MXA20A_L (TSOP, 20-Leads, Body 6.5x4.4mm, Pitch 0.65mm, Exposed Pad, IPC High Density)
footprint MXA20A_M (TSOP, 20-Leads, Body 6.5x4.4mm, Pitch 0.65mm, Exposed Pad, IPC Low Density)
pins: 1 LF1, 2 LF2, 3 RATE0 (in), 4 RATE1 (in), 5 SDI (in), 6 ~{SDI} (in), 7 VCC (power), 8 BP/~{AUTO-BP} (in), 9 ~{OP MUTE} (in), 10 XTAL IN/EXT CLK (in), 11 XTAL OUT (out), 12 LOCK DET (out), 13 ~{SCO/SDO2} (out), 14 SCO/SDO2 (out), 15 VCCO (power), 16 ~{SDO} (out), 17 SDO (out), 18 VCCO (power), 19 SD/~{HD} (out), 20 SCO_EN (in), 21 VEE (power)

## LMH0050SQ
designator U?
HD, SD, DVB-ASI SDI Serializer with LVDS Interface; PartNumber: LMH0050SQ; Manufacturer: National Semiconductor; CompType: Interface IC; PackageTopMarking: NS*UZXYTT*LMH0050; Published: 4-Dec-2008; DatasheetVersion: Oct-2008; PackageVersion: revA, May-2003; PackageReference: SQA48A; Publisher: Altium Limited; RoHS: Y; PinCount: 48; Code_JEDEC: MO-220-WKKD-2; ComponentLink1Description: LMH0050 Datasheet; ComponentLink1URL: http://www.national.com/ds/LM/LMH0050.pdf; ComponentLink2Description: LMH0050 Web Page; ComponentLink2URL: http://www.national.com/pf/LM/LMH0050.html; ComponentLink3Description: SQA48A Package Page; ComponentLink3URL: http://www.national.com/packaging/folders/sqa48a.html
footprint SQA48A (QFN, 48-Leads, Body 7x7mm, Pitch 0.5mm, NSC Recommended)
pins: 1 VDD3V3 (power), 2 RSVD_H (in), 3 GPIO_0 (io), 4 GPIO_1 (io), 5 RSVD_H (in), 6 DVB_ASI (in), 7 VDD2V5 (power), 8 GND (power), 9 GND (power), 10 GND (power), 11 GPIO_2 (io), 12 GND (power), 13 GND (power), 14 RSET (in), 15 VDD2V5 (power), 16 TXOUT+ (out), 17 TXOUT- (out), 18 VDD2V5 (power), 19 DNC, 20 DNC, 21 GND (power), 22 GND (power), 23 GND (power), 24 GND (power), 25 VDD2V5 (power), 26 LF_REF, 27 LF_CP, 28 VDDPLL (power), 29 GND (power), 30 ~{RESET} (in), 31 ~{LOCK} (out), 32 SDA (io), 33 SCK (in), 34 SMB_CS (in), 35 VDD2V5 (power), 36 VDD3V3 (power), 37 TXCLK+ (in), 38 TXCLK- (in), 39 TX0+ (in), 40 TX0- (in), 41 TX1+ (in), 42 TX1- (in), 43 TX2+ (in), 44 TX2- (in), 45 TX3+ (in), 46 TX3- (in), 47 TX4+ (in), 48 TX4- (in), 49 DAP (power)

## LMH0051SQ
designator U?
HD, SD, DVB-ASI SDI Deserializer with LVDS Interface; PartNumber: LMH0051SQ; Manufacturer: National Semiconductor; CompType: Interface IC; PackageTopMarking: NS*UZXYTT*LMH0051; Published: 4-Dec-2008; DatasheetVersion: Oct-2008; PackageVersion: revA, May-2003; PackageReference: SQA48A; Publisher: Altium Limited; RoHS: Y; PinCount: 48; DigiKeyPartNumber: LMH0051SQ-ND; Code_JEDEC: MO-220-WKKD-2; ComponentLink1Description: LMH0051 Datasheet; ComponentLink1URL: http://www.national.com/ds/LM/LMH0051.pdf; ComponentLink2Description: LMH0051 Web Page; ComponentLink2URL: http://www.national.com/pf/LM/LMH0051.html; ComponentLink3Description: SQA48A Package Page; ComponentLink3URL: http://www.national.com/packaging/folders/sqa48a.html
footprint SQA48A (QFN, 48-Leads, Body 7x7mm, Pitch 0.5mm, NSC Recommended)
pins: 1 VDD3V3 (power), 2 NC, 3 GPIO_0 (io), 4 GPIO_1 (io), 5 RSVD_H (in), 6 DVB_ASI (in), 7 VDD2V5 (power), 8 GND (power), 9 GND (power), 10 GND (power), 11 GPIO_2 (io), 12 RX_MUX_SEL (in), 13 GND (power), 14 RSET (in), 15 VDD3V3 (power), 16 RXIN0+ (in), 17 RXIN0- (in), 18 VDD3V3 (power), 19 RXIN1+ (in), 20 RXIN1- (in), 21 DNC, 22 DNC, 23 GND (power), 24 GND (power), 25 VDD2V5 (power), 26 LF_REF, 27 LF_CP, 28 VDDPLL (power), 29 GND (power), 30 ~{RESET} (in), 31 ~{LOCK} (out), 32 SDA (io), 33 SCK (in), 34 SMB_CS (in), 35 VDD2V5 (power), 36 VDD3V3 (power), 37 RXCLK+ (in), 38 RXCLK- (in), 39 RX0+ (in), 40 RX0- (in), 41 RX1+ (in), 42 RX1- (in), 43 RX2+ (in), 44 RX2- (in), 45 RX3+ (in), 46 RX3- (in), 47 RX4+ (in), 48 RX4- (in), 49 DAP (power)

## LMH0056SQ
designator U?
HD/SD SDI Reclocker with 4:1 Input Multiplexer; PartNumber: LMH0056SQ; Manufacturer: National Semiconductor; CompType: Interface IC; PackageTopMarking: NS*UZXYTT*L056; Published: 4-Dec-2008; DatasheetVersion: Apr-2007; PackageVersion: revA, May-2003; PackageReference: SQA48A; Publisher: Altium Limited; PackageDescription: LLP, Plastic, Quad, 7 x 7 x 0.8mm Body, 48 Lead, 0.5mm Pitch, No Pullback; RoHS: Y; PinCount: 48; DigiKeyPartNumber: LMH0056SQTR-ND; Code_JEDEC: MO-220-WKKD-2; ComponentLink1Description: LMH0056 Datasheet; ComponentLink1URL: http://www.national.com/ds/LM/LMH0056.pdf; ComponentLink2Description: LMH0056 Web Page; ComponentLink2URL: http://www.national.com/pf/LM/LMH0056.html; ComponentLink3Description: SQA48A Package Page; ComponentLink3URL: http://www.national.com/packaging/folders/sqa48a.html
footprint SQA48A (QFN, 48-Leads, Body 7x7mm, Pitch 0.5mm, NSC Recommended)
pins: 1 SDI0 (in), 2 ~{SDI0} (in), 3 VCC (power), 4 SDI1 (in), 5 ~{SDI1} (in), 6 VCC (power), 7 SDI2 (in), 8 ~{SDI2} (in), 9 VCC (power), 10 SDI3 (in), 11 ~{SDI3} (in), 12 VCC (power), 13 VEE (power), 14 VCC (power), 15 BYPASS/~{AUTOBYPASS} (in), 16 ~{O/P MUTE} (in), 17 VEE (power), 18 XTAL IN/EXT CLK (in), 19 VEE (power), 20 VEE (power), 21 VEE (power), 22 XTAL OUT (out), 23 VEE (power), 24 LOCK DET (out), 25 VEE (power), 26 VEE (power), 27 VEE (power), 28 ~{SCO/SDO2} (out), 29 SCO/SDO2 (out), 30 VCC (power), 31 VCC (power), 32 ~{SDO} (out), 33 SDO (out), 34 VCC (power), 35 VCC (power), 36 SD/~{HD} (out), 37 SCO_EN (in), 38 VEE (power), 39 VEE (power), 40 VEE (power), 41 VEE (power), 42 VEE (power), 43 LF1, 44 LF2, 45 RATE0 (in), 46 RATE1 (in), 47 SEL0 (in), 48 SEL1 (in), 49 VEE (power)

## LMH0070SQ
designator U?
SD, DVB-ASI SDI Serializer and Driver with LVDS Interface; PartNumber: LMH0070SQ; Manufacturer: National Semiconductor; CompType: Interface IC; PackageTopMarking: NS*UZXYTT*LMH0070; Published: 4-Dec-2008; DatasheetVersion: Oct-2008; PackageVersion: revA, May-2003; PackageReference: SQA48A; Publisher: Altium Limited; RoHS: Y; PinCount: 48; DigiKeyPartNumber: LMH0070SQ-ND; Code_JEDEC: MO-220-WKKD-2; ComponentLink1Description: LMH0070 Datasheet; ComponentLink1URL: http://www.national.com/ds/LM/LMH0070.pdf; ComponentLink2Description: LMH0070 Web Page; ComponentLink2URL: http://www.national.com/pf/LM/LMH0070.html; ComponentLink3Description: SQA48A Package Page; ComponentLink3URL: http://www.national.com/packaging/folders/sqa48a.html
footprint SQA48A (QFN, 48-Leads, Body 7x7mm, Pitch 0.5mm, NSC Recommended)
pins: 1 VDD3V3 (power), 2 RSVD_H (in), 3 GPIO_0 (io), 4 GPIO_1 (io), 5 RSVD_H (in), 6 DVB_ASI (in), 7 VDD2V5 (power), 8 GND (power), 9 GND (power), 10 GND (power), 11 GPIO_2 (io), 12 GND (power), 13 GND (power), 14 RSET (in), 15 VDD2V5 (power), 16 TXOUT+ (out), 17 TXOUT- (out), 18 VDD2V5 (power), 19 DNC, 20 DNC, 21 GND (power), 22 GND (power), 23 GND (power), 24 GND (power), 25 VDD2V5 (power), 26 LF_REF, 27 LF_CP, 28 VDDPLL (power), 29 GND (power), 30 ~{RESET} (in), 31 ~{LOCK} (out), 32 SDA (io), 33 SCK (in), 34 SMB_CS (in), 35 VDD2V5 (power), 36 VDD3V3 (power), 37 TXCLK+ (in), 38 TXCLK- (in), 39 TX0+ (in), 40 TX0- (in), 41 TX1+ (in), 42 TX1- (in), 43 TX2+ (in), 44 TX2- (in), 45 TX3+ (in), 46 TX3- (in), 47 TX4+ (in), 48 TX4- (in), 49 DAP (power)

## LMH0071SQ
designator U?
SD, DVB-ASI SDI Deserializer with Loopthrough and LVDS Interface; PartNumber: LMH0071SQ; Manufacturer: National Semiconductor; CompType: Interface IC; PackageTopMarking: NS*UZXYTT*LMH0071; Published: 4-Dec-2008; DatasheetVersion: Oct-2008; PackageVersion: revA, May-2003; PackageReference: SQA48A; Publisher: Altium Limited; RoHS: Y; PinCount: 48; DigiKeyPartNumber: LMH0071SQ-ND; Code_JEDEC: MO-220-WKKD-2; ComponentLink1Description: LMH0071 Datasheet; ComponentLink1URL: http://www.national.com/ds/LM/LMH0071.pdf; ComponentLink2Description: LMH0071 Web Page; ComponentLink2URL: http://www.national.com/pf/LM/LMH0071.html; ComponentLink3Description: SQA48A Package Page; ComponentLink3URL: http://www.national.com/packaging/folders/sqa48a.html
footprint SQA48A (QFN, 48-Leads, Body 7x7mm, Pitch 0.5mm, NSC Recommended)
pins: 1 VDD3V3 (power), 2 LOOPTHRU_EN (in), 3 GPIO_0 (io), 4 GPIO_1 (io), 5 RSVD_H (in), 6 DVB_ASI (in), 7 VDD2V5 (power), 8 GND (power), 9 GND (power), 10 GND (power), 11 GPIO_2 (io), 12 RX_MUX_SEL (in), 13 DNC, 14 RSET (in), 15 VDD3V3 (power), 16 RXIN0+ (in), 17 RXIN0- (in), 18 VDD3V3 (power), 19 RXIN1+ (in), 20 RXIN1- (in), 21 TXOUT+ (out), 22 TXOUT- (out), 23 GND (power), 24 GND (power), 25 VDD2V5 (power), 26 LF_REF, 27 LF_CP, 28 VDDPLL (power), 29 GND (power), 30 ~{RESET} (in), 31 ~{LOCK} (out), 32 SDA (io), 33 SCK (in), 34 SMB_CS (in), 35 VDD2V5 (power), 36 VDD3V3 (power), 37 RXCLK+ (in), 38 RXCLK- (in), 39 RX0+ (in), 40 RX0- (in), 41 RX1+ (in), 42 RX1- (in), 43 RX2+ (in), 44 RX2- (in), 45 RX3+ (in), 46 RX3- (in), 47 RX4+ (in), 48 RX4- (in), 49 DAP (power)

## LMH0074SQ
designator U?
SMPTE 259M / 344M Adaptive Cable Equalizer; PartNumber: LMH0074SQ; Manufacturer: National Semiconductor; CompType: Interface IC; PackageTopMarking: NS*UZXYTT*L074; Published: 4-Dec-2008; DatasheetVersion: Dec-2007; PackageVersion: revA, Dec-2005; PackageReference: SQB16A; Publisher: Altium Limited; PackageDescription: LLP, Plastic, Quad, 4 x 4 x 0.8mm, 16 Lead, 0.65mm Pitch, No Pullback; RoHS: Y; PinCount: 16; ComponentLink1Description: LMH0074 Datasheet; ComponentLink1URL: http://www.national.com/ds/LM/LMH0074.pdf; ComponentLink2Description: LMH0074 Web Page; ComponentLink2URL: http://www.national.com/pf/LM/LMH0074.html; ComponentLink3Description: SQB16A Package Page; ComponentLink3URL: http://www.national.com/packaging/folders/sqb16a.html
footprint SQB16A (QFN, 16-Leads, Body 4x4mm, Pitch 0.65mm, NSC Recommended)
pins: 1 VEE (power), 2 SDI (in), 3 ~{SDI} (in), 4 VEE (power), 5 AEC+, 6 AEC-, 7 BYPASS (in), 8 MUTEREF (in), 9 VEE (power), 10 ~{SDO} (out), 11 SDO (out), 12 VEE (power), 13 VCC (power), 14 MUTE (in), 15 ~{CD} (out), 16 VCC (power), 17 DAP (power)

## LMH0202MT
designator U?
LMH0202 SMPTE 292M / 259M Serial Digital Cable Driver; PartNumber: LMH0202MT; Manufacturer: National Semiconductor; CompType: Interface IC; PackageTopMarking: NSUZXYTT*L202; Published: 4-Dec-2008; DatasheetVersion: Jun-2006; PackageVersion: revD, Jun-2003; PackageReference: MTC16; Publisher: Altium Limited; PackageDescription: Molded TSSOP, Jedec, 5 x 4.4 x 0.9mm Body, 16 Lead, 0.65mm Pitch; RoHS: Y; PinCount: 16; DigiKeyPartNumber: LMH0202MT-ND; Code_JEDEC: MO-153-AB; ComponentLink1Description: LMH0202 Datasheet; ComponentLink1URL: http://www.national.com/ds/LM/LMH0202.pdf; ComponentLink2Description: LMH0202 Web Page; ComponentLink2URL: http://www.national.com/pf/LM/LMH0202.html; ComponentLink3Description: MTC16 Package Page; ComponentLink3URL: http://www.national.com/packaging/folders/mtc16.html
footprint MTC16_N (TSOP, 16-Leads, Body 5x4.4mm, Pitch 0.65mm, IPC Medium Density)
footprint MTC16_L (TSOP, 16-Leads, Body 5x4.4mm, Pitch 0.65mm, IPC High Density)
footprint MTC16_M (TSOP, 16-Leads, Body 5x4.4mm, Pitch 0.65mm, IPC Low Density)
pins: 1 SDI1 (in), 2 ~{SDI1} (in), 3 VEE1 (power), 4 RREF1, 5 SDI2 (in), 6 ~{SDI2} (in), 7 VEE2 (power), 8 RREF2, 9 VCC2 (power), 10 SD/~{HD}2 (in), 11 ~{SDO2} (out), 12 SDO2 (out), 13 VCC1 (power), 14 SD/~{HD}1 (in), 15 ~{SDO1} (out), 16 SDO1 (out)

## LMH0302SQ
designator U?
3 Gbps HD/SD SDI Cable Driver; PartNumber: LMH0302SQ; Manufacturer: National Semiconductor; CompType: Interface IC; PackageTopMarking: NS*UZXYTT*L0302; Published: 4-Dec-2008; DatasheetVersion: Nov-2007; PackageVersion: revA, Dec-2005; PackageReference: SQB16A; Publisher: Altium Limited; PackageDescription: LLP, Plastic, Quad, 4 x 4 x 0.8mm, 16 Lead, 0.65mm Pitch, No Pullback; RoHS: Y; PinCount: 16; ComponentLink1Description: LMH0302 Datasheet; ComponentLink1URL: http://www.national.com/ds/LM/LMH0302.pdf; ComponentLink2Description: LMH0302 Web Page; ComponentLink2URL: http://www.national.com/pf/LM/LMH0302.html; ComponentLink3Description: SQB16A Package Page; ComponentLink3URL: http://www.national.com/packaging/folders/sqb16a.html
footprint SQB16A (QFN, 16-Leads, Body 4x4mm, Pitch 0.65mm, NSC Recommended)
pins: 1 SDI (in), 2 ~{SDI} (in), 3 VEE (power), 4 RREF, 5 NC, 6 ENABLE (in), 7 NC, 8 NC, 9 VCC (power), 10 SD/~{HD} (in), 11 ~{SDO} (out), 12 SDO (out), 13 NC, 14 NC, 15 NC, 16 NC, 17 DAP (power)

## LMH0303SQ
designator U?
3 Gbps HD/SD SDI Cable Driver with Cable Detect; PartNumber: LMH0303SQ; Manufacturer: National Semiconductor; CompType: Interface IC; PackageTopMarking: NS*UZXYTT*L0303; Published: 4-Dec-2008; DatasheetVersion: Aug-2008; PackageVersion: revA, Dec-2005; PackageReference: SQB16A; Publisher: Altium Limited; RoHS: Y; PinCount: 16; ComponentLink1Description: LMH0303 Datasheet; ComponentLink1URL: http://www.national.com/ds/LM/LMH0303.pdf; ComponentLink2Description: LMH0303 Web Page; ComponentLink2URL: http://www.national.com/pf/LM/LMH0303.html; ComponentLink3Description: SQB16A Package Page; ComponentLink3URL: http://www.national.com/packaging/folders/sqb16a.html
footprint SQB16A (QFN, 16-Leads, Body 4x4mm, Pitch 0.65mm, NSC Recommended)
pins: 1 SDI (in), 2 ~{SDI} (in), 3 VEE (power), 4 RREF, 5 ~{RSTI} (in), 6 EN (in), 7 SDA (in), 8 SCL (in), 9 VCC (power), 10 SD/~{HD} (out), 11 ~{SDO} (out), 12 SDO (out), 13 ~{FAULT}, 14 NC, 15 NC, 16 ~{RSTO} (out), 17 VEE (power)

## LMH0307SQ
designator U?
3 Gbps HD/SD SDI Dual Output Cable Driver with Cable Detect; PartNumber: LMH0307SQ; Manufacturer: National Semiconductor; CompType: Interface IC; PackageTopMarking: NS*UZXYTT*L0307; Published: 4-Dec-2008; DatasheetVersion: Aug-2008; PackageVersion: revA, Dec-2005; PackageReference: SQB16A; Publisher: Altium Limited; RoHS: Y; PinCount: 16; ComponentLink1Description: LMH0307 Datasheet; ComponentLink1URL: http://www.national.com/ds/LM/LMH0307.pdf; ComponentLink2Description: LMH0307 Web Page; ComponentLink2URL: http://www.national.com/pf/LM/LMH0307.html; ComponentLink3Description: SQB16A Package Page; ComponentLink3URL: http://www.national.com/packaging/folders/sqb16a.html
footprint SQB16A (QFN, 16-Leads, Body 4x4mm, Pitch 0.65mm, NSC Recommended)
pins: 1 SDI (in), 2 ~{SDI} (in), 3 VEE (power), 4 RREF, 5 ~{RSTI} (in), 6 EN (in), 7 SDA (in), 8 SCL (in), 9 VCC (power), 10 SD/~{HD} (out), 11 ~{SDO0} (out), 12 SDO0 (out), 13 ~{FAULT}, 14 ~{SDO1} (out), 15 SDO1 (out), 16 ~{RSTO} (out), 17 VEE (power)

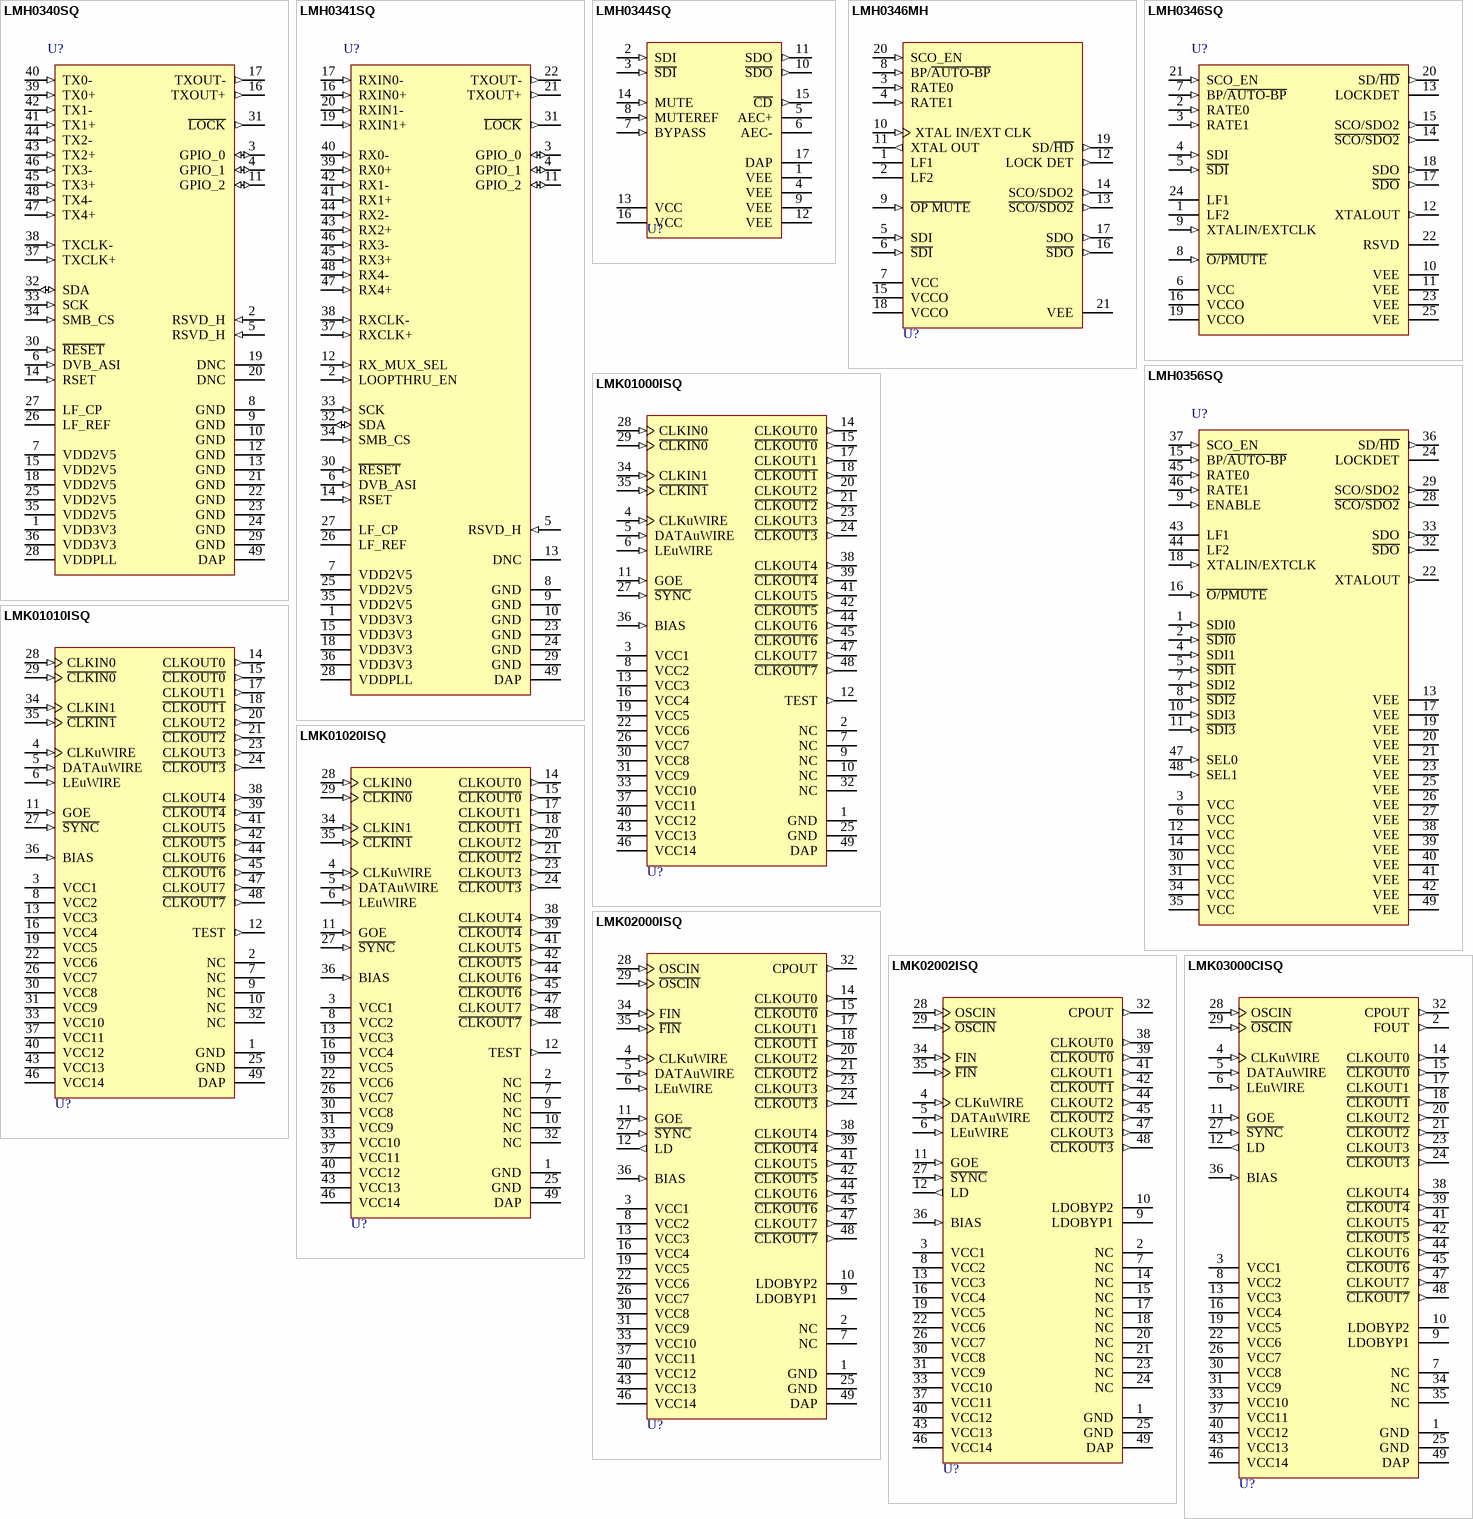
[diagram p30: symbols LMH0340SQ to LMK03000CISQ]

## LMH0340SQ
designator U?
3 Gbps, HD, SD, DVB-ASI SDI Serializer and Driver with LVDS Interface; PartNumber: LMH0340SQ; Manufacturer: National Semiconductor; CompType: Interface IC; PackageTopMarking: NS*UZXYTT*L0340; Published: 4-Dec-2008; DatasheetVersion: Oct-2008; PackageVersion: revA, May-2003; PackageReference: SQA48A; Publisher: Altium Limited; RoHS: Y; PinCount: 48; DigiKeyPartNumber: LMH0340SQ-ND; Code_JEDEC: MO-220-WKKD-2; ComponentLink1Description: LMH0340 Datasheet; ComponentLink1URL: http://www.national.com/ds/LM/LMH0340.pdf; ComponentLink2Description: LMH0340 Web Page; ComponentLink2URL: http://www.national.com/pf/LM/LMH0340.html; ComponentLink3Description: SQA48A Package Page; ComponentLink3URL: http://www.national.com/packaging/folders/sqa48a.html
footprint SQA48A (QFN, 48-Leads, Body 7x7mm, Pitch 0.5mm, NSC Recommended)
pins: 1 VDD3V3 (power), 2 RSVD_H (in), 3 GPIO_0 (io), 4 GPIO_1 (io), 5 RSVD_H (in), 6 DVB_ASI (in), 7 VDD2V5 (power), 8 GND (power), 9 GND (power), 10 GND (power), 11 GPIO_2 (io), 12 GND (power), 13 GND (power), 14 RSET (in), 15 VDD2V5 (power), 16 TXOUT+ (out), 17 TXOUT- (out), 18 VDD2V5 (power), 19 DNC, 20 DNC, 21 GND (power), 22 GND (power), 23 GND (power), 24 GND (power), 25 VDD2V5 (power), 26 LF_REF, 27 LF_CP, 28 VDDPLL (power), 29 GND (power), 30 ~{RESET} (in), 31 ~{LOCK} (out), 32 SDA (io), 33 SCK (in), 34 SMB_CS (in), 35 VDD2V5 (power), 36 VDD3V3 (power), 37 TXCLK+ (in), 38 TXCLK- (in), 39 TX0+ (in), 40 TX0- (in), 41 TX1+ (in), 42 TX1- (in), 43 TX2+ (in), 44 TX2- (in), 45 TX3+ (in), 46 TX3- (in), 47 TX4+ (in), 48 TX4- (in), 49 DAP (power)

## LMH0341SQ
designator U?
3 Gbps, HD, SD, DVB-ASI SDI Deserializer with Loopthrough and LVDS Interface; PartNumber: LMH0341SQ; Manufacturer: National Semiconductor; CompType: Interface IC; PackageTopMarking: NS*UZXYTT*L0341; Published: 4-Dec-2008; DatasheetVersion: Oct-2008; PackageVersion: revA, May-2003; PackageReference: SQA48A; Publisher: Altium Limited; RoHS: Y; PinCount: 48; DigiKeyPartNumber: LMH0341SQ-ND; Code_JEDEC: MO-220-WKKD-2; ComponentLink1Description: LMH0341 Datasheet; ComponentLink1URL: http://www.national.com/ds/LM/LMH0341.pdf; ComponentLink2Description: LMH0341 Web Page; ComponentLink2URL: http://www.national.com/pf/LM/LMH0341.html; ComponentLink3Description: SQA48A Package Page; ComponentLink3URL: http://www.national.com/packaging/folders/sqa48a.html
footprint SQA48A (QFN, 48-Leads, Body 7x7mm, Pitch 0.5mm, NSC Recommended)
pins: 1 VDD3V3 (power), 2 LOOPTHRU_EN (in), 3 GPIO_0 (io), 4 GPIO_1 (io), 5 RSVD_H (in), 6 DVB_ASI (in), 7 VDD2V5 (power), 8 GND (power), 9 GND (power), 10 GND (power), 11 GPIO_2 (io), 12 RX_MUX_SEL (in), 13 DNC, 14 RSET (in), 15 VDD3V3 (power), 16 RXIN0+ (in), 17 RXIN0- (in), 18 VDD3V3 (power), 19 RXIN1+ (in), 20 RXIN1- (in), 21 TXOUT+ (out), 22 TXOUT- (out), 23 GND (power), 24 GND (power), 25 VDD2V5 (power), 26 LF_REF, 27 LF_CP, 28 VDDPLL (power), 29 GND (power), 30 ~{RESET} (in), 31 ~{LOCK} (out), 32 SDA (io), 33 SCK (in), 34 SMB_CS (in), 35 VDD2V5 (power), 36 VDD3V3 (power), 37 RXCLK+ (in), 38 RXCLK- (in), 39 RX0+ (in), 40 RX0- (in), 41 RX1+ (in), 42 RX1- (in), 43 RX2+ (in), 44 RX2- (in), 45 RX3+ (in), 46 RX3- (in), 47 RX4+ (in), 48 RX4- (in), 49 DAP (power)

## LMH0344SQ
designator U?
3 Gbps HD/SD SDI Adaptive Cable Equalizer; PartNumber: LMH0344SQ; Manufacturer: National Semiconductor; CompType: Interface IC; PackageTopMarking: NS*UZXYTT*L0344; Published: 4-Dec-2008; DatasheetVersion: Apr-2008; PackageVersion: revA, Dec-2005; PackageReference: SQB16A; Publisher: Altium Limited; PackageDescription: LLP, Plastic, Quad, 4 x 4 x 0.8mm, 16 Lead, 0.65mm Pitch, No Pullback; RoHS: Y; PinCount: 16; DigiKeyPartNumber: SD344EVK-ND; ComponentLink1Description: LMH0344 Datasheet; ComponentLink1URL: http://www.national.com/ds/LM/LMH0344.pdf; ComponentLink2Description: LMH0344 Web Page; ComponentLink2URL: http://www.national.com/pf/LM/LMH0344.html; ComponentLink3Description: SQB16A Package Page; ComponentLink3URL: http://www.national.com/packaging/folders/sqb16a.html
footprint SQB16A (QFN, 16-Leads, Body 4x4mm, Pitch 0.65mm, NSC Recommended)
pins: 1 VEE (power), 2 SDI (in), 3 ~{SDI} (in), 4 VEE (power), 5 AEC+, 6 AEC-, 7 BYPASS (in), 8 MUTEREF (in), 9 VEE (power), 10 ~{SDO} (out), 11 SDO (out), 12 VEE (power), 13 VCC (power), 14 MUTE (in), 15 ~{CD} (out), 16 VCC (power), 17 DAP (power)

## LMH0346MH
designator U?
3 Gbps HD/SD SDI Reclocker with Dual Differential Outputs; PartNumber: LMH0346MH; Manufacturer: National Semiconductor; CompType: Interface IC; PackageTopMarking: NSUZXYTT*L0346; Published: 4-Dec-2008; DatasheetVersion: Apr-2008; PackageVersion: revC, Jul-2006; PackageReference: MXA20A; Publisher: Altium Limited; PackageDescription: Molded TSSOP, Jedec, 6.5 x 4.4 x 0.9mm Body, 20 Lead, 0.65mm Pitch, Exposed Pad; RoHS: Y; PinCount: 20; Code_JEDEC: MO-153-ACT; ComponentLink1Description: LMH0346 Datasheet; ComponentLink1URL: http://www.national.com/ds/LM/LMH0346.pdf; ComponentLink2Description: LMH0346 Web Page; ComponentLink2URL: http://www.national.com/pf/LM/LMH0346.html; ComponentLink3Description: MXA20A Package Page; ComponentLink3URL: http://www.national.com/packaging/folders/mxa20a.html
footprint MXA20A_N (TSOP, 20-Leads, Body 6.5x4.4mm, Pitch 0.65mm, Exposed Pad, IPC Medium Density)
footprint MXA20A_L (TSOP, 20-Leads, Body 6.5x4.4mm, Pitch 0.65mm, Exposed Pad, IPC High Density)
footprint MXA20A_M (TSOP, 20-Leads, Body 6.5x4.4mm, Pitch 0.65mm, Exposed Pad, IPC Low Density)
pins: 1 LF1, 2 LF2, 3 RATE0 (in), 4 RATE1 (in), 5 SDI (in), 6 ~{SDI} (in), 7 VCC (power), 8 BP/~{AUTO-BP} (in), 9 ~{OP MUTE} (in), 10 XTAL IN/EXT CLK (in), 11 XTAL OUT (out), 12 LOCK DET (out), 13 ~{SCO/SDO2} (out), 14 SCO/SDO2 (out), 15 VCCO (power), 16 ~{SDO} (out), 17 SDO (out), 18 VCCO (power), 19 SD/~{HD} (out), 20 SCO_EN (in), 21 VEE (power)

## LMH0346SQ
designator U?
3 Gbps HD/SD SDI Reclocker with Dual Differential Outputs; PartNumber: LMH0346SQ; Manufacturer: National Semiconductor; CompType: Interface IC; PackageTopMarking: NS*UZXYTT*L0346SQ; Published: 4-Dec-2008; DatasheetVersion: Aug-2008; PackageVersion: revA, Oct-2003; PackageReference: SQA24B; Publisher: Altium Limited; RoHS: Y; PinCount: 24; DigiKeyPartNumber: LMH0346SQ-ND; Code_JEDEC: MO-220-WGHD-1; ComponentLink1Description: LMH0346 Datasheet; ComponentLink1URL: http://www.national.com/ds/LM/LMH0346.pdf; ComponentLink2Description: LMH0346 Web Page; ComponentLink2URL: http://www.national.com/pf/LM/LMH0346.html; ComponentLink3Description: SQA24B Package Page; ComponentLink3URL: http://www.national.com/packaging/folders/sqa24b.html
footprint SQA24B (QFN, 24-Leads, Body 5x4mm, Pitch 0.5mm, NSC Recommended)
pins: 1 LF2, 2 RATE0 (in), 3 RATE1 (in), 4 SDI (in), 5 ~{SDI} (in), 6 VCC (power), 7 BP/~{AUTO-BP} (in), 8 ~{O/PMUTE} (in), 9 XTALIN/EXTCLK (in), 10 VEE (power), 11 VEE (power), 12 XTALOUT (out), 13 LOCKDET, 14 ~{SCO/SDO2} (out), 15 SCO/SDO2 (out), 16 VCCO (power), 17 ~{SDO} (out), 18 SDO (out), 19 VCCO (power), 20 SD/~{HD} (out), 21 SCO_EN (in), 22 RSVD, 23 VEE (power), 24 LF1, 25 VEE (power)

## LMH0356SQ
designator U?
3 Gbps HD/SD SDI Reclocker with 4:1 Input Mux and FR4 EQs; PartNumber: LMH0356SQ; Manufacturer: National Semiconductor; CompType: Interface IC; PackageTopMarking: NS*UZXYTT*L0356; Published: 4-Dec-2008; DatasheetVersion: Aug-2008; PackageVersion: revA, May-2003; PackageReference: SQA48A; Publisher: Altium Limited; RoHS: Y; PinCount: 48; DigiKeyPartNumber: LMH0356SQ-ND; Code_JEDEC: MO-220-WKKD-2; ComponentLink1Description: LMH0356 Datasheet; ComponentLink1URL: http://www.national.com/ds/LM/LMH0356.pdf; ComponentLink2Description: LMH0356 Web Page; ComponentLink2URL: http://www.national.com/pf/LM/LMH0356.html; ComponentLink3Description: SQA48A Package Page; ComponentLink3URL: http://www.national.com/packaging/folders/sqa48a.html
footprint SQA48A (QFN, 48-Leads, Body 7x7mm, Pitch 0.5mm, NSC Recommended)
pins: 1 SDI0 (in), 2 ~{SDI0} (in), 3 VCC (power), 4 SDI1 (in), 5 ~{SDI1} (in), 6 VCC (power), 7 SDI2 (in), 8 ~{SDI2} (in), 9 ENABLE (in), 10 SDI3 (in), 11 ~{SDI3} (in), 12 VCC (power), 13 VEE (power), 14 VCC (power), 15 BP/~{AUTO-BP} (in), 16 ~{O/PMUTE} (in), 17 VEE (power), 18 XTALIN/EXTCLK (in), 19 VEE (power), 20 VEE (power), 21 VEE (power), 22 XTALOUT (out), 23 VEE (power), 24 LOCKDET, 25 VEE (power), 26 VEE (power), 27 VEE (power), 28 ~{SCO/SDO2} (out), 29 SCO/SDO2 (out), 30 VCC (power), 31 VCC (power), 32 ~{SDO} (out), 33 SDO (out), 34 VCC (power), 35 VCC (power), 36 SD/~{HD} (out), 37 SCO_EN (in), 38 VEE (power), 39 VEE (power), 40 VEE (power), 41 VEE (power), 42 VEE (power), 43 LF1, 44 LF2, 45 RATE0 (in), 46 RATE1 (in), 47 SEL0 (in), 48 SEL1 (in), 49 VEE (power)